# EAGLE library part ATTINY10 (library dan)
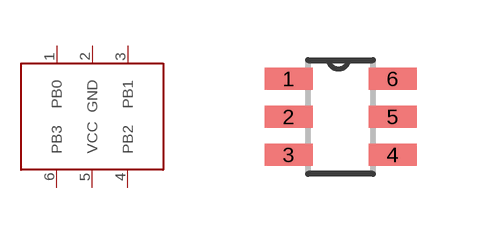
[diagram p5: symbol with the pads of SOT-23-6; footprint SOT-23-6]

Designator prefix -

## ATTINY10  [SOT-23-6]
1  PB0
2  GND
3  PB1
4  PB2
5  VCC
6  PB3

## Footprint SOT-23-6 (pad centres in mm)
smd 1.2 x 0.55: 1 -1.3,0.95; 2 -1.3,0; 3 -1.3,-0.95; 4 1.3,-0.95; 5 1.3,0; 6 1.3,0.95